# Altium footprint library E_SWITCH_100SPXT1B1M1XEX.PcbLib: 1 footprints
Each footprint in its own frame and in the unit in brackets; x right, y up, seen from the top. Pads: shape width x height; smd on the part's side, far side on the other; paste and mask are expansions set on the pad; w line width, h text height; cw(c..) or ccw(c..) is an arc to the next point about the centre after c.
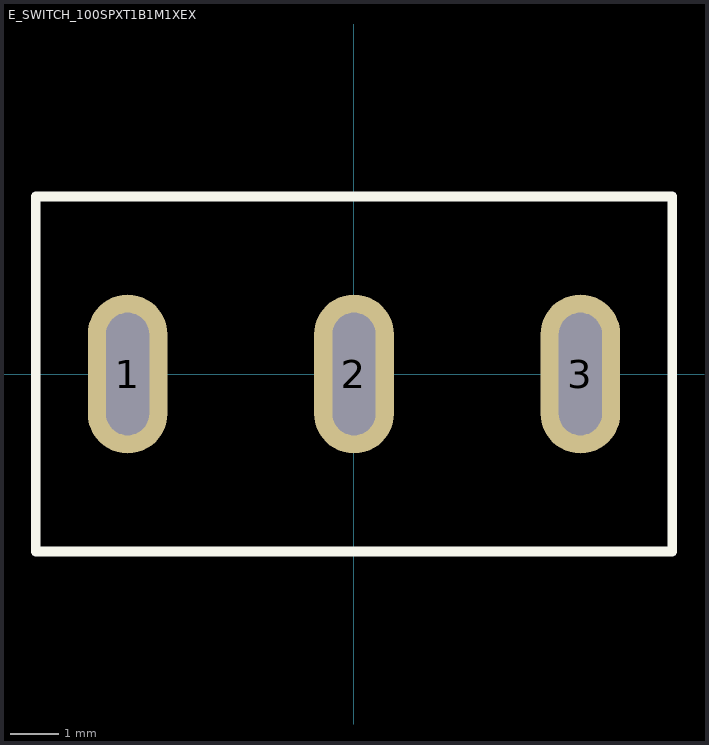
[diagram p0: the footprint, top view; thin cyan lines are the x and y axes]

## E_SWITCH_100SPXT1B1M1XEX [mil]
pads (3):
  oval 65x130 hole 35 slot 100 at 90 deg: 1(-185,0) 2(0,0) 3(185,0)
Top Overlay:
  lines w7.87: -260,-145 -260,145 260,145 260,-145 -260,-145
Mechanical 15:
  lines w1.97: -25,0 25,0 ; 0,-25 0,25 ; -260,-145 -260,145 260,145 260,-145 -260,-145
3D body: height 1142.62, standoff -112.62, extent -249.99,-135.03 250.01,135.05